# Altium integrated library Resistors-potenciometers.IntLib: 398 symbols (part 5 of 5)
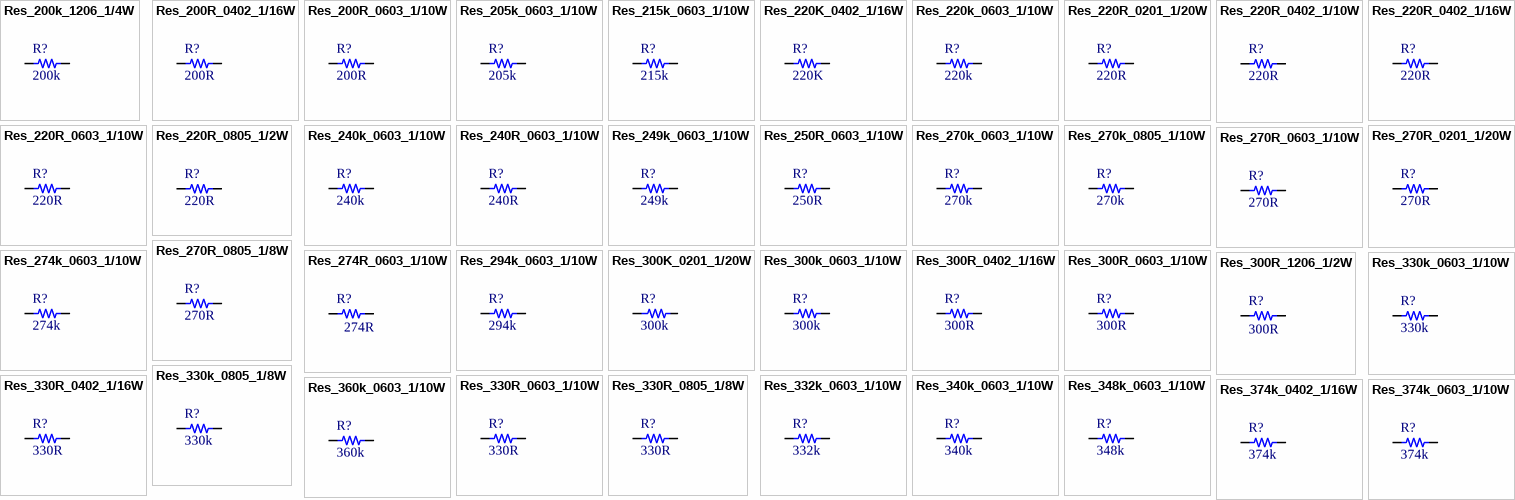
[diagram p13: symbols Res_200k_1206_1/4W to Res_374k_0603_1/10W]

## Res_332k_0603_1/10W
designator R?, comment value 332k  (hidden comment: 332k 1/10W)
RES SMD 332K OHM 1% 1/10W 0603; Manufacturer: Yageo; Manufacturer Part Number: RC0603FR-07332KL; Supplier 1: Digi-Key; Supplier Part Number 1: 311-332KHRCT-ND; Reel Stock: N/A; Last modified by: J.Jaramillo; Last modified date: 20240310; ComponentLink1Description: Digi-Key; ComponentLink1URL: https://www.digikey.com/product-detail/en/yageo/RC0603FR-07332KL/311-332KHRCT-ND/730112
footprint 0603 (1608 Metric / 20190222 / N-A.Potosi)
pins: 1, 2

## Res_340k_0603_1/10W
designator R?, comment value 340k  (hidden comment: 340k 1/10W)
RES SMD 340K OHM 1% 1/10W 0603; Manufacturer: Yageo; Manufacturer Part Number: RC0603FR-07340KL; Reel Stock: N/A; Last modified by: J.Jaramillo; Last modified date: 20240310; ComponentLink1Description: Digi-Key; ComponentLink1URL: https://www.digikey.com/en/products/detail/yageo/RC0603FR-07340KL/727171?s=N4IgTCBcDaIEoGEAMA2JBmAYnAtEg7OgCxIDSAMiALoC%2BQA; Supplier 1: Digi-Key; Supplier Part Number 1: 311-340KHRCT-ND
footprint 0603
pins: 1, 2

## Res_348k_0603_1/10W
designator R?, comment value 348k  (hidden comment: 348K 1/10W)
RES SMD 348k OHM 1% 1/10W 0603; Manufacturer: Yageo; Manufacturer Part Number: RC0603FR-07348KL; Supplier 1: Digi-Key; Supplier Part Number 1: 311-348KHRCT-ND; Reel Stock: N/A; Last modified by: J.Jaramillo; Last modified date: 20240310; ComponentLink1Description: Digi-Key; ComponentLink1URL: https://www.digikey.com/product-detail/en/yageo/RC0603FR-07348KL/311-348KHRTR-ND/727173
footprint 0603
pins: 1, 2

## Res_360k_0603_1/10W
designator R?, comment value 360k  (hidden comment: 360k 1/10W)
RES SMD 360K OHM 1% 1/10W 0603; Manufacturer Part Number: RC0603FR-07360KL; Manufacturer: Yageo; Reel Stock: N/A; Last modified by: J.Jaramillo; Last modified date: 20240310; ComponentLink1Description: Digi-Key; ComponentLink1URL: https://www.digikey.com/en/products/detail/yageo/RC0603FR-07360KL/727183?s=N4IgTCBcDaIEoGEAMA2JBmAYnAtEg7OmgNIAyIAugL5A; Supplier Part Number 1: 311-360KHRCT-ND; Supplier 1: Digi-Key
footprint 0603
pins: 1, 2

## Res_374k_0402_1/16W
designator R?, comment value 374k  (hidden comment: 374k 1/16W)
RES SMD 374K OHM 1% 1/16W 0402; Manufacturer: Yageo; Manufacturer Part Number: RC0402FR-07374KL; Supplier 1: Digikey; Supplier Part Number 1: YAG3136CT-ND; Reel Stock: N/A; Last modified by: J.Jaramillo; Last modified date: 20240310; ComponentLink1Description: Digikey; ComponentLink1URL: https://www.digikey.com/en/products/detail/yageo/RC0402FR-07374KL/5280996
footprint 0402 (1005 Metric / 20190222 / N-A.Potosi)
footprint 0402_RF (1005 Metric / 20190222 / N-A.Potosi)
footprint 0402_RF2 (1005 Metric / 20190222 / N-A.Potosi)
pins: 1, 2

## Res_374k_0603_1/10W
designator R?, comment value 374k  (hidden comment: 374k 1/10W)
RES SMD 374K OHM 1% 1/10W 0603; Manufacturer: Yageo; Manufacturer Part Number: RC0603FR-07374KL; Reel Stock: N/A; Last modified by: J.Jaramillo; Last modified date: 20240310; ComponentLink1Description: Digi-Key; ComponentLink1URL: https://www.digikey.com/en/products/detail/yageo/RC0603FR-07374KL/727189?s=N4IgTCBcDaIEoGEAMA2JBmAYnAtEg7OvgCwDSAMiALoC%2BQA; Supplier 1: Digi-Key; Supplier Part Number 1: 311-374KHRCT-ND
footprint 0603
pins: 1, 2

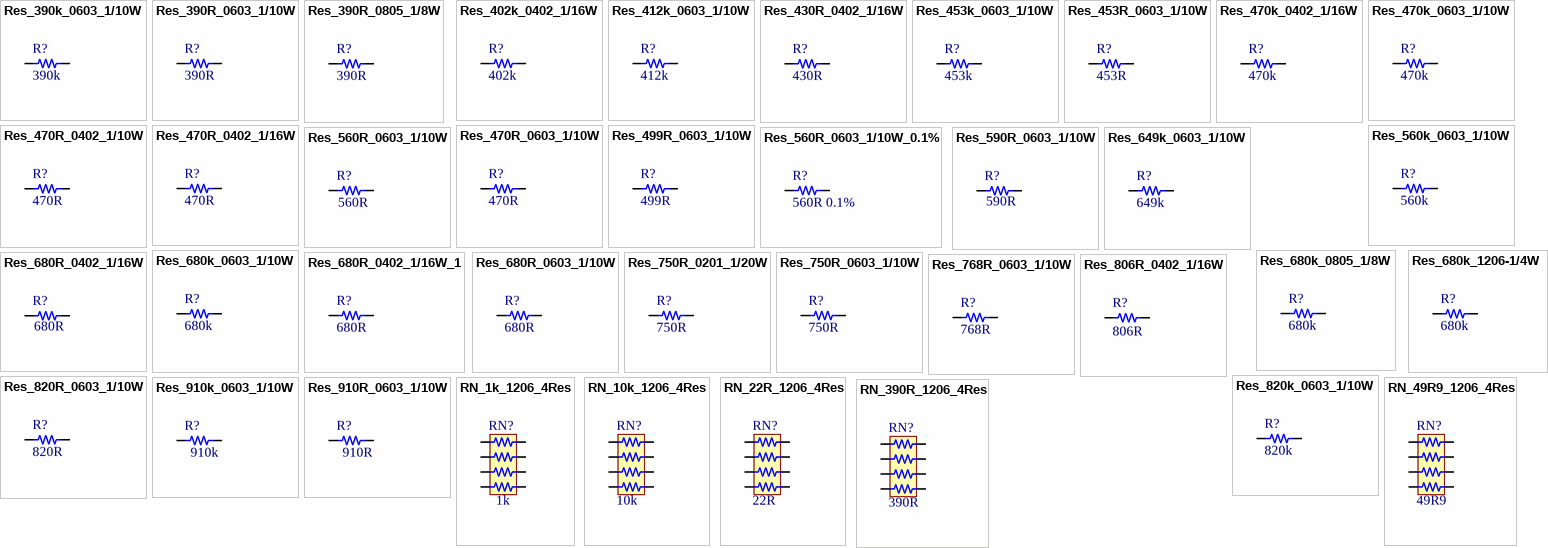
[diagram p9: symbols Res_390k_0603_1/10W to RN_390R_1206_4Res]

## Res_390k_0603_1/10W
designator R?, comment value 390k  (hidden comment: 390k 1/10W)
RES SMD 390K OHM 1% 1/10W 0603; Manufacturer Part Number: RC0603FR-07390KL; Manufacturer: Yageo; Reel Stock: N/A; Last modified by: J.Jaramillo; Last modified date: 20240310; ComponentLink1Description: Digi-Key; ComponentLink1URL: https://www.digikey.com/en/products/detail/yageo/RC0603FR-07390KL/727199?s=N4IgTCBcDaIEoGEAMA2JBmAYnAtEg7OgJxIDSAMiALoC%2BQA; Supplier 1: Digi-Key; Supplier Part Number 1: 311-390KHRCT-ND
footprint 0603
pins: 1, 2

## Res_390R_0603_1/10W
designator R?, comment value 390R  (hidden comment: 390R 1/10W)
RES 390 OHM 1% 1/10W 0603; Manufacturer: Stackpole Electronics; Manufacturer Part Number: RMCF0603FT390R; Reel Stock: N/A; Last modified by: J.Jaramillo; Last modified date: 20240310; ComponentLink1Description: Digi-Key; ComponentLink1URL: https://www.digikey.com/en/products/detail/stackpole-electronics-inc/RMCF0603FT390R/1713981?s=N4IgTCBcDaIEoFkDCAxADANjQZhQFWwE404QBdAXyA; Supplier 1: Digi-Key; Supplier Part Number 1: RMCF0603FT390RCT-ND
footprint 0603
pins: 1, 2

## Res_390R_0805_1/8W
designator R?, comment value 390R  (hidden comment: 390R 1/8W)
RES SMD 390 OHM 1% 1/8W 0805; Manufacturer Part Number: RC0805FR-07390RL; Manufacturer: Yageo; Reel Stock: N/A; Last modified by: J.Jaramillo; Last modified date: 20240310; ComponentLink1Description: Digi-Key; ComponentLink1URL: https://www.digikey.com/product-detail/en/yageo/RC0805FR-07390RL/311-390CRCT-ND/730849; Supplier 1: Digi-Key; Supplier Part Number 1: 311-390CRCT-ND
footprint 0805 (2012 metric/ 20190327 / V-A.Patino)
footprint 0805_M (2012 Metric / 20200129/ V-A.Patino)
pins: 1, 2

## Res_402k_0402_1/16W
designator R?, comment value 402k  (hidden comment: 402K 1/16W)
RES SMD 402k OHM 1% 1/16W 0402; Manufacturer: Vishay Dale; Manufacturer Part Number: CRCW0402402KFKED; ComponentLink1URL: https://www.digikey.com/products/en?keywords=541-402KLCT-ND; Supplier 1: Digi-key; Supplier Part Number 1: 541-402KLCT-ND; Last modified by: J.Jaramillo; Last modified date: 20240310; ComponentLink1Description: Digi-key; Reel Stock: N/A
footprint 0402 (1005 Metric / 20190222 / N-A.Potosi)
footprint 0402_RF (1005 Metric / 20190222 / N-A.Potosi)
footprint 0402_RF2 (1005 Metric / 20190222 / N-A.Potosi)
pins: 1, 2

## Res_412k_0603_1/10W
designator R?, comment value 412k  (hidden comment: 412k 1/10W)
RES SMD 412K OHM 1% 1/10W 0603; Manufacturer: Yageo Phycomp; Manufacturer Part Number: RC0603FR-07412KL; Reel Stock: N/A; Last modified by: J.Jaramillo; Last modified date: 20240310; ComponentLink1Description: Digi-Key; ComponentLink1URL: https://www.digikey.com/en/products/detail/yageo/RC0603FR-07412KL/727227?s=N4IgTCBcDaIEoGEAMA2JBmAYnAtEg7ACwCMYA0gDIgC6AvkA; Supplier 1: Digi-Key; Supplier Part Number 1: 311-412KHRCT-ND
footprint 0603
pins: 1, 2

## Res_430R_0402_1/16W
designator R?, comment value 430R  (hidden comment: 430R 1/16W)
RES SMD 430 OHM 5% 1/16W 0402; Manufacturer: YAGEO; Manufacturer Part Number: RC0402JR-07430RL; Supplier 1: Digi-Key; Supplier Part Number 1: 311-430JRCT-ND; Reel Stock: N/A; Last modified by: J.Jaramillo; Last modified date: 20240310; ComponentLink1Description: Digi-Key; ComponentLink1URL: https://www.digikey.com/en/products/detail/yageo/RC0402JR-07430RL/726478
footprint 0402 (1005 Metric / 20190222 / N-A.Potosi)
footprint 0402_RF (1005 Metric / 20190222 / N-A.Potosi)
footprint 0402_RF2 (1005 Metric / 20190222 / N-A.Potosi)
pins: 1, 2

## Res_453k_0603_1/10W
designator R?, comment value 453k  (hidden comment: 453k 1/10W)
RES SMD 453K OHM 1% 1/10W 0603; Manufacturer: Yageo; Manufacturer Part Number: RC0603FR-07453KL; Reel Stock: N/A; Last modified by: J.Jaramillo; Last modified date: 20240310; ComponentLink1Description: Digi-Key; ComponentLink1URL: https://www.digikey.com/en/products/detail/yageo/RC0603FR-07453KL/727247?s=N4IgTCBcDaIEoGEAMA2JBmAYnAtEg7ACwCs6A0gDIgC6AvkA; Supplier 1: Digi-Key; Supplier Part Number 1: 311-453KHRCT-ND
footprint 0603
pins: 1, 2

## Res_453R_0603_1/10W
designator R?, comment value 453R  (hidden comment: 453R 1/10W)
RES SMD 453 OHM 1% 1/10W 0603; Manufacturer: Vishay Dale; Manufacturer Part Number: CRCW0603453RFKEA; Supplier 1: Digi-Key; Supplier Part Number 1: 541-453HCT-ND; Reel Stock: N/A; Last modified by: J.Jaramillo; Last modified date: 20240310; ComponentLink1Description: Digi-key; ComponentLink1URL: https://www.digikey.com/en/products/detail/vishay-dale/CRCW0603453RFKEA/1174628
footprint 0603 (1608 Metric / 20190222 / N-A.Potosi)
pins: 1, 2

## Res_470k_0402_1/16W
designator R?, comment value 470k  (hidden comment: 470k 1/16W)
RES SMD 470K OHM 1% 1/16W 0402; Manufacturer: Yageo; Manufacturer Part Number: RC0402FR-07470KL; Supplier 1: Digikey; Supplier Part Number 1: 311-470KLRCT-ND; Reel Stock: N/A; Last modified by: J.Jaramillo; Last modified date: 20240310; ComponentLink1Description: Digikey; ComponentLink1URL: https://www.digikey.com/en/products/detail/yageo/RC0402FR-07470KL/726618
footprint 0402 (1005 Metric / 20190222 / N-A.Potosi)
footprint 0402_RF (1005 Metric / 20190222 / N-A.Potosi)
footprint 0402_RF2 (1005 Metric / 20190222 / N-A.Potosi)
pins: 1, 2

## Res_470k_0603_1/10W
designator R?, comment value 470k  (hidden comment: 470k 1/10W)
RES SMD 470K OHM 1% 1/10W 0603; Manufacturer Part Number: RC0603FR-07470KL; Manufacturer: Yageo; Reel Stock: N/A; Last modified by: J.Jaramillo; Last modified date: 20240310; ComponentLink1Description: Digi-Key; ComponentLink1URL: https://www.digikey.com/en/products/detail/yageo/RC0603FR-07470KL/727257?s=N4IgTCBcDaIEoGEAMA2JBmAYnAtEg7ACz5IDSAMiALoC%2BQA; Supplier 1: Digi-Key; Supplier Part Number 1: 311-470KHRCT-ND
footprint 0603
pins: 1, 2

## Res_470R_0402_1/10W
designator R?, comment value 470R  (hidden comment: 470R 1/10W)
RES SMD 470 OHM 1% 1/10W 0402; Manufacturer: Panasonic Electronic Components; Manufacturer Part Number: ERJ-2RKF4700X; Supplier 1: Digi-Key; Supplier Part Number 1: P470LCT-ND; Reel Stock: N/A; Last modified by: J.Jaramillo; Last modified date: 20240310; ComponentLink1Description: Digi-Key; ComponentLink1URL: https://www.digikey.com/product-detail/en/panasonic-electronic-components/ERJ-2RKF4700X/P470LCT-ND/1746691
footprint 0402 (1005 Metric / 20190222 / N-A.Potosi)
footprint 0402_RF (1005 Metric / 20190222 / N-A.Potosi)
footprint 0402_RF2 (1005 Metric / 20190222 / N-A.Potosi)
pins: 1, 2

## Res_470R_0402_1/16W
designator R?, comment value 470R  (hidden comment: 470R 1/16W)
CRGCQ 0402 470R 1%; Manufacturer: TE Connectivity Passive Product; Manufacturer Part Number: CRGCQ0402F470R; Supplier 1: Digi-Key; Supplier Part Number 1: A129623CT-ND; Reel Stock: N/A; Last modified by: J.Jaramillo; Last modified date: 20240310; ComponentLink1Description: Digi-Key; ComponentLink1URL: https://www.digikey.com/product-detail/en/te-connectivity-passive-product/CRGCQ0402F470R/A129623CT-ND/8577455
footprint 0402 (1005 Metric / 20190222 / N-A.Potosi)
footprint 0402_RF (1005 Metric / 20190222 / N-A.Potosi)
footprint 0402_RF2 (1005 Metric / 20190222 / N-A.Potosi)
pins: 1, 2

## Res_470R_0603_1/10W
designator R?, comment value 470R  (hidden comment: 470R 1/10W)
RES SMD 470 OHM 1% 1/10W 0603; Manufacturer: Yageo; Manufacturer Part Number: RC0603FR-07470RL; Supplier 1: Digi-Key; Supplier Part Number 1: 311-470HRCT-ND; Reel Stock: N/A; Last modified by: J.Jaramillo; Last modified date: 20240310; ComponentLink1Description: Digi-Key; ComponentLink1URL: https://www.digikey.com/product-detail/en/yageo/RC0603FR-07470RL/311-470HRCT-ND/730203
footprint 0603
pins: 1, 2

## Res_499R_0603_1/10W
designator R?, comment value 499R  (hidden comment: 499R 1/10W)
RES SMD 499 OHM 1% 1/10W 0603; Manufacturer Part Number: AC0603FR-07499RL; Manufacturer: Rohm Semiconductor; ComponentLink1URL: https://www.digikey.com/en/products/detail/yageo/AC0603FR-07499RL/5896149; Reel Stock: N/A; Last modified by: J.Jaramillo; Last modified date: 20240310; ComponentLink1Description: Digi-key; Supplier Part Number 1: 13-AC0603FR-07499RLCT-ND; Supplier 1: Digi-Key
footprint 0603
pins: 1, 2

## Res_560k_0603_1/10W
designator R?, comment value 560k  (hidden comment: 560k 1/10W)
RES SMD 560K OHM 1% 1/10W 0603; Manufacturer Part Number: RC0603FR-07560KL; Manufacturer: Yageo; Reel Stock: N/A; Last modified by: J.Jaramillo; Last modified date: 20240310; ComponentLink1Description: Digi-Key; ComponentLink1URL: https://www.digikey.com/en/products/detail/yageo/RC0603FR-07560KL/727305?s=N4IgTCBcDaIEoGEAMA2JBmAYnAtEg7AKxoDSAMiALoC%2BQA; Supplier 1: Digi-Key; Supplier Part Number 1: 311-560KHRCT-ND
footprint 0603
pins: 1, 2

## Res_560R_0603_1/10W
designator R?, comment value 560R  (hidden comment: 560R 1/10W)
RES SMD 560 OHM 1% 1/10W 0603; Manufacturer: Yageo; Manufacturer Part Number: RC0603FR-07560RL; ComponentLink1URL: https://www.digikey.com/product-detail/en/yageo/RC0603FR-07560RL/311-560HRCT-ND/730251; Reel Stock: N/A; Last modified by: J.Jaramillo; Last modified date: 20240310; ComponentLink1Description: Digi-key; Supplier Part Number 1: 311-560HRCT-ND; Supplier 1: Digi-Key
footprint 0603
pins: 1, 2

## Res_560R_0603_1/10W_0.1%
designator R?, comment value 560R 0.1%  (hidden comment: 560R 1/10W)
RES SMD 560 OHM 0.1% 1/10W 0603; Manufacturer: Panasonic Electronic Components; Manufacturer Part Number: ERA-3AEB561V; ComponentLink1URL: https://www.digikey.com/en/products/detail/panasonic-electronic-components/ERA-3AEB561V/1465848; Reel Stock: N/A; Last modified by: J.Jaramillo; Last modified date: 20240310; ComponentLink1Description: Digi-key; Supplier Part Number 1: P560DBCT-ND; Supplier 1: Digi-Key
footprint 0603
pins: 1, 2

## Res_590R_0603_1/10W
designator R?, comment value 590R  (hidden comment: 590R 1/10W)
RES 590 OHM 1% 1/10W 0603; Manufacturer: YAGEO; Manufacturer Part Number: RC0603FR-07590RL; Supplier 1: Digi-Key; Supplier Part Number 1: 311-590HRCT-ND; Reel Stock: N/A; Last modified by: J.Jaramillo; Last modified date: 20240310; ComponentLink1Description: Digi-Key; ComponentLink1URL: https://www.digikey.com/en/products/detail/yageo/RC0603FR-07590RL/727314
footprint 0603_0.4mm (1608 Metric/20230303/J-A.Sepulveda)
footprint 0603_0.6mm (1608 Metric/20230303/J-A.Sepulveda)
footprint 0603_0.8mm (1608 Metric/20230303/J-A.Sepulveda)
footprint 0603_1.0mm (1608 Metric/20230303/J-A.Sepulveda)
footprint 0603_1.4mm (1608 Metric/20230206/J-A.Sepulveda)
footprint 0603_1.2mm (1608 Metric/20230303/J-A.Sepulveda)
pins: 1, 2

## Res_649k_0603_1/10W
designator R?, comment value 649k  (hidden comment: 649k 1/10W)
RES SMD 649k OHM 1% 1/10W 0603; Manufacturer: Yageo; Manufacturer Part Number: RC0603FR-07649KL; Supplier 1: Digi-Key; Supplier Part Number 1: 311-649KHRCT-ND; Reel Stock: N/A; Last modified by: J.Jaramillo; Last modified date: 20240310; ComponentLink1Description: Digi-Key; ComponentLink1URL: https://www.digikey.com/product-detail/en/yageo/RC0603FR-07649KL/311-649KHRCT-ND/730293
footprint 0603
pins: 1, 2

## Res_680k_0603_1/10W
designator R?, comment value 680k  (hidden comment: 680k 1/10W)
RES SMD 680K OHM 1% 1/10W 0603; Manufacturer: Yageo; Manufacturer Part Number: RC0603FR-07680KL; Supplier 1: Digi-Key; Supplier Part Number 1: 311-680KHRCT-ND; Reel Stock: N/A; Last modified by: J.Jaramillo; Last modified date: 20240310; ComponentLink1Description: Digi-Key; ComponentLink1URL: https://www.digikey.com/product-detail/en/yageo/RC0603FR-07680KL/311-680KHRCT-ND/730303
footprint 0603 (1608 Metric / 20190222 / N-A.Potosi)
pins: 1, 2

## Res_680k_0805_1/8W
designator R?, comment value 680k  (hidden comment: 680k 1/8W)
RES SMD 680K OHM 1% 1/8W 0805; Manufacturer: Yageo; Manufacturer Part Number: RC0805FR-07680KL; Supplier 1: Digi-Key; Supplier Part Number 1: 311-680KCRCT-ND; Reel Stock: N/A; Last modified by: J.Jaramillo; Last modified date: 20240310; ComponentLink1Description: Digi-Key; ComponentLink1URL: https://www.digikey.com/product-detail/en/yageo/RC0805FR-07680KL/311-680KCRCT-ND/731049
footprint 0805 (2012 metric/ 20190327 / V-A.Patino)
footprint 0805_M (2012 Metric / 20200129/ V-A.Patino)
pins: 1, 2

## Res_680k_1206-1/4W
designator R?, comment value 680k  (hidden comment: 680k 1/4W)
RES SMD 680K OHM 1% 1/4W 1206; Manufacturer: Yageo; Manufacturer Part Number: RC1206FR-07680KL; Supplier 1: Digi-Key; Supplier Part Number 1: 311-680KFRCT-ND; Reel Stock: N/A; Last modified by: J.Jaramillo; Last modified date: 20240310; ComponentLink1Description: Digi-Key; ComponentLink1URL: https://www.digikey.com/product-detail/en/yageo/RC1206FR-07680KL/311-680KFRCT-ND/732012
footprint 1206 (3216 metric/ 20190327/ V-A.Patino)
pins: 1, 2

## Res_680R_0402_1/16W
designator R?, comment value 680R  (hidden comment: 680R 1/16W)
RES SMD 680 OHM 1% 1/16W 0402; Manufacturer: YAGEO; Manufacturer Part Number: AF0402FR-07680RL; Supplier 1: Digi-Key; Supplier Part Number 1: 13-AF0402FR-07680RLCT-ND; Reel Stock: N/A; Last modified by: J.Jaramillo; Last modified date: 20240310; ComponentLink1Description: Digi-Key; ComponentLink1URL: https://www.digikey.com/en/products/detail/yageo/AF0402FR-07680RL/5900649
footprint 0402 (1005 Metric / 20190222 / N-A.Potosi)
pins: 1, 2

## Res_680R_0402_1/16W_1
designator R?, comment value 680R  (hidden comment: 680R 1/16W)
RES 680 OHM 5% 1/16W 0402; Manufacturer: Stackpole Electronics Inc; Manufacturer Part Number: RMCF0402JT680R; Supplier 1: Digi-Key; Supplier Part Number 1: RMCF0402JT680RCT-ND; Reel Stock: N/A; Last modified by: J.Jaramillo; Last modified date: 20240310; ComponentLink1Description: Digi-Key; ComponentLink1URL: https://www.digikey.com/product-detail/en/stackpole-electronics-inc/RMCF0402JT680R/RMCF0402JT680RCT-ND/2417895
footprint 0402 (1005 Metric / 20190222 / N-A.Potosi)
footprint 0402_RF (1005 Metric / 20190222 / N-A.Potosi)
footprint 0402_RF2 (1005 Metric / 20190222 / N-A.Potosi)
pins: 1, 2

## Res_680R_0603_1/10W
designator R?, comment value 680R  (hidden comment: 680R 1/10W)
RES 680 OHM 1% 1/10W 0603; Manufacturer: Stackpole Electronics; Manufacturer Part Number: RMCF0603FT680R; Reel Stock: N/A; Last modified by: J.Jaramillo; Last modified date: 20240310; ComponentLink1Description: Digi-Key; ComponentLink1URL: https://www.digikey.com/en/products/detail/stackpole-electronics-inc/RMCF0603FT680R/1760751?s=N4IgTCBcDaIEoFkDCAxADANjQZhQFQwA404k8BaAOQBEQBdAXyA; Supplier 1: Digi-Key; Supplier Part Number 1: RMCF0603FT680RCT-ND
footprint 0603
pins: 1, 2

## Res_750R_0201_1/20W
designator R?  value 750R
RES 750 OHM 1% 1/20W 0201; Manufacturer: YAGEO; Manufacturer Part Number: RC0201FR-07750RL; Supplier 1: Digi-Key; Supplier Part Number 1: YAG2794CT-ND; Reel Stock: N/A; Last modified by: J.Jaramillo; Last modified date: 20240310; ComponentLink1Description: Digi-Key; ComponentLink1URL: https://www.digikey.com/en/products/detail/yageo/RC0201FR-07750RL/5280654?s=N4IgTCBcDaIEoGEAMYkEYBicC0SDseArEnADIgC6AvkA
footprint 0201 (20211214 / A-F.Romo)
pins: 1, 2

## Res_750R_0603_1/10W
designator R?, comment value 750R  (hidden comment: 750R 1/10W)
RES SMD 750 OHM 1% 1/10W 0603; Manufacturer: Panasonic Electronic Components; Manufacturer Part Number: ERJ-3EKF7500V; Supplier 1: Digi-Key; Supplier Part Number 1: P750HCT-ND; Reel Stock: N/A; Last modified by: J.Jaramillo; Last modified date: 20240310; ComponentLink1Description: Digi-Key; ComponentLink1URL: https://www.digikey.com/product-detail/en/stackpole-electronics-inc/RMCF0603FT75R0/RMCF0603FT75R0CT-ND/1942961
footprint 0603
pins: 1, 2

## Res_768R_0603_1/10W
designator R?, comment value 768R  (hidden comment: 768R 1/10W)
RES SMD 768 OHM 1% 1/10W 0603; Manufacturer: Yageo; Manufacturer Part Number: RC0603FR-07768RL; Reel Stock: N/A; Last modified by: J.Jaramillo; Last modified date: 20240310; ComponentLink1Description: Digi-Key; ComponentLink1URL: https://www.digikey.com/en/products/detail/yageo/RC0603FR-07768RL/727383; Supplier 1: Digi-Key; Supplier Part Number 1: 311-768HRCT-ND
footprint 0603
pins: 1, 2

## Res_806R_0402_1/16W
designator R?, comment value 806R  (hidden comment: 806R 1/16W)
RES SMD 806 OHM 1% 1/16W 0402; Manufacturer: Vishay Dale; Manufacturer Part Number: CRCW0402806RFKED; Supplier 1: Digi-Key; Supplier Part Number 1: 541-806LCT-ND; Reel Stock: N/A; Last modified by: J.Jaramillo; Last modified date: 20240310; ComponentLink1Description: Digi-Key; ComponentLink1URL: https://www.digikey.com/en/products/detail/vishay-dale/CRCW0402806RFKED/1177996
footprint 0402 (1005 Metric / 20190222 / N-A.Potosi)
footprint 0402_RF (1005 Metric / 20190222 / N-A.Potosi)
footprint 0402_RF2 (1005 Metric / 20190222 / N-A.Potosi)
pins: 1, 2

## Res_820k_0603_1/10W
designator R?, comment value 820k  (hidden comment: 820k 1/10W)
RES SMD 820K OHM 1% 1/10W 0603; Manufacturer: Yageo; Manufacturer Part Number: RC0603FR-07820KL; Reel Stock: N/A; Last modified by: J.Jaramillo; Last modified date: 20240310; ComponentLink1Description: Digi-Key; ComponentLink1URL: https://www.digikey.com/en/products/detail/yageo/RC0603FR-07820KL/727404?s=N4IgTCBcDaIMwEYEFoAcYAMBpAEgJQGEAVZAOQBEQBdAXyA; Supplier 1: Digi-Key; Supplier Part Number 1: 311-820KHRCT-ND
footprint 0603
pins: 1, 2

## Res_820R_0603_1/10W
designator R?, comment value 820R  (hidden comment: 820R 1/10W)
RES SMD 820 OHM 1% 1/10W 0603; Manufacturer: Yageo; Manufacturer Part Number: RC0603FR-07820RL; Supplier 1: Digi-Key; Supplier Part Number 1: 311-820HRCT-ND; Reel Stock: N/A; Last modified by: J.Jaramillo; Last modified date: 20240310; ComponentLink1Description: Digi-Key; ComponentLink1URL: https://www.digikey.com/product-detail/en/yageo/RC0603FR-07820RL/311-820HRCT-ND/730350
footprint 0603 (1608 Metric / 20190222 / N-A.Potosi)
pins: 1, 2

## Res_910k_0603_1/10W
designator R?, comment value 910k  (hidden comment: 910k 1/10W)
RES 910K OHM 1% 1/10W 0603; Manufacturer: Yageo; Manufacturer Part Number: RC0603FR-07910KL; Supplier 1: Digi-Key; Supplier Part Number 1: 311-910KHRCT-ND; Reel Stock: N/A; Last modified by: J.Jaramillo; Last modified date: 20240310; ComponentLink1Description: Digi-Key; ComponentLink1URL: https://www.digikey.com/en/products/detail/yageo/RC0603FR-07910KL/727430
footprint 0603 (1608 Metric / 20190222 / N-A.Potosi)
pins: 1, 2

## Res_910R_0603_1/10W
designator R?, comment value 910R  (hidden comment: 910R 1/10W)
RES SMD 910 OHM 1% 1/10W 0603; Manufacturer: Yageo; Manufacturer Part Number: RC0603FR-07910RL; Supplier 1: Digi-Key; Supplier Part Number 1: 311-910HRCT-ND; Reel Stock: N/A; Last modified by: J.Jaramillo; Last modified date: 20240310; ComponentLink1Description: Digi-Key; ComponentLink1URL: https://www.digikey.com/en/products/detail/yageo/RC0603FR-07910RL/727429?s=N4IgTCBcDaIMwEYEFoCcCAMAJASgYQBVkA5AERAF0BfIA
footprint 0603 (1608 Metric / 20190222 / N-A.Potosi)
pins: 1, 2

## RN_1k_1206_4Res
designator RN?, comment value 1k  (hidden comment: 4 Res 1k)
RES ARRAY 4 RES 1K OHM 1206; Manufacturer: Bourns Inc.; Manufacturer Part Number: CAY16-102J4LF; Supplier 1: Digi-Key; Supplier Part Number 1: CAY16-102J4LFCT-ND; Reel Stock: N/A; Last modified by: J.Jaramillo; Last modified date: 20240310; ComponentLink1Description: Digi-Key; ComponentLink1URL: https://www.digikey.com/product-detail/en/bourns-inc/CAY16-102J4LF/CAY16-102J4LFCT-ND/3437828
footprint RN_1206_4Res_L (3216 Metric / 20200731 / N-A.Potosi)
footprint RN_1206_4Res_N (3216 Metric / 20200731 / N-A.Potosi)
footprint RN_1206_4Res_M (3216 Metric / 20200731 / N-A.Potosi)
pins: 1, 2, 3, 4, 5, 6, 7, 8

## RN_10k_1206_4Res
designator RN?, comment value 10k  (hidden comment: 4 Res 10k)
RES ARRAY 4 RES 10K OHM 1206; Manufacturer: Panasonic Electronic Components; Manufacturer Part Number: EXB-38V103JV; Supplier 1: Digi-Key; Supplier Part Number 1: Y9103CT-ND; Reel Stock: N/A; Last modified by: J.Jaramillo; Last modified date: 20240310; ComponentLink1Description: Digi-Key; ComponentLink1URL: https://www.digikey.com/product-detail/en/panasonic-electronic-components/EXB-38V103JV/Y9103CT-ND/256604
footprint RN_1206_4Res_L (3216 Metric / 20200731 / N-A.Potosi)
footprint RN_1206_4Res_M (3216 Metric / 20200731 / N-A.Potosi)
footprint RN_1206_4Res_N (3216 Metric / 20200731 / N-A.Potosi)
pins: 1, 2, 3, 4, 5, 6, 7, 8

## RN_22R_1206_4Res
designator RN?, comment value 22R  (hidden comment: 4 Res 22R)
RES ARRAY 4 RES 22 OHM 1206; Manufacturer: Yageo; Manufacturer Part Number: YC164-JR-0722RL; Supplier 1: Digi-Key; Supplier Part Number 1: YC164J-22CT-ND; Reel Stock: N/A; Last modified by: J.Jaramillo; Last modified date: 20240310; ComponentLink1Description: Digi-Key; ComponentLink1URL: https://www.digikey.com/products/en?keywords=YC164J-22CT-ND
footprint RN_1206_4Res_L (3216 Metric / 20200731 / N-A.Potosi)
footprint RN_1206_4Res_M (3216 Metric / 20200731 / N-A.Potosi)
footprint RN_1206_4Res_N (3216 Metric / 20200731 / N-A.Potosi)
pins: 1, 2, 3, 4, 5, 6, 7, 8

## RN_49R9_1206_4Res
designator RN?, comment value 49R9  (hidden comment: 4 Res)
RES ARRAY 4 RES 49.9 OHM 1206; Manufacturer: Bourns Inc.; Manufacturer Part Number: CAY16-49R9F4LF; Supplier 1: Digi-Key; Supplier Part Number 1: CAY16-49R9F4LFCT-ND; Reel Stock: N/A; Last modified by: J.Jaramillo; Last modified date: 20240310; ComponentLink1Description: Digi-Key; ComponentLink1URL: https://www.digikey.com/product-detail/en/bourns-inc/CAY16-49R9F4LF/CAY16-49R9F4LFCT-ND/3437972
footprint RN_1206_4Res_L (3216 Metric / 20200731 / N-A.Potosi)
footprint RN_1206_4Res_M (3216 Metric / 20200731 / N-A.Potosi)
footprint RN_1206_4Res_N (3216 Metric / 20200731 / N-A.Potosi)
pins: 1, 2, 3, 4, 5, 6, 7, 8

## RN_390R_1206_4Res
designator RN?, comment value 390R  (hidden comment: 4 Res 390R)
RES ARRAY 4 RES 390 OHM 1206; Manufacturer: Panasonic Electronic Components; Manufacturer Part Number: EXB-V8V391JV; Supplier 1: Digi-Key; Supplier Part Number 1: Y4391CT-ND; Reel Stock: N/A; Last modified by: J.Jaramillo; Last modified date: 20240310; ComponentLink1Description: Digi-Key; ComponentLink1URL: https://www.digikey.com/product-detail/en/panasonic-electronic-components/EXB-V8V391JV/Y4391CT-ND/155154
footprint RN_1206_4Res_L (3216 Metric / 20200731 / N-A.Potosi)
footprint RN_1206_4Res_M (3216 Metric / 20200731 / N-A.Potosi)
footprint RN_1206_4Res_N (3216 Metric / 20200731 / N-A.Potosi)
pins: 1, 2, 3, 4, 5, 6, 7, 8